# Altium schematic symbol library LM340T.SchLib: 1 symbol
Pins are listed as number, name and electrical type; pins without a type are passive.

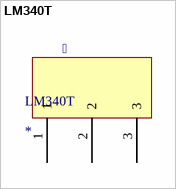
[diagram p0: symbol LM340T]

## LM340T
designator LM340T
footprint TO254P1054X470X1955-3
pins: 1, 2, 3